# Altium footprint library Components.PcbLib: 154 footprints (part 3 of 10)
Each footprint in its own frame and in the unit in brackets; x right, y up, seen from the top. Pads: shape width x height; smd on the part's side, far side on the other; paste and mask are expansions set on the pad; w line width, h text height; cw(c..) or ccw(c..) is an arc to the next point about the centre after c.
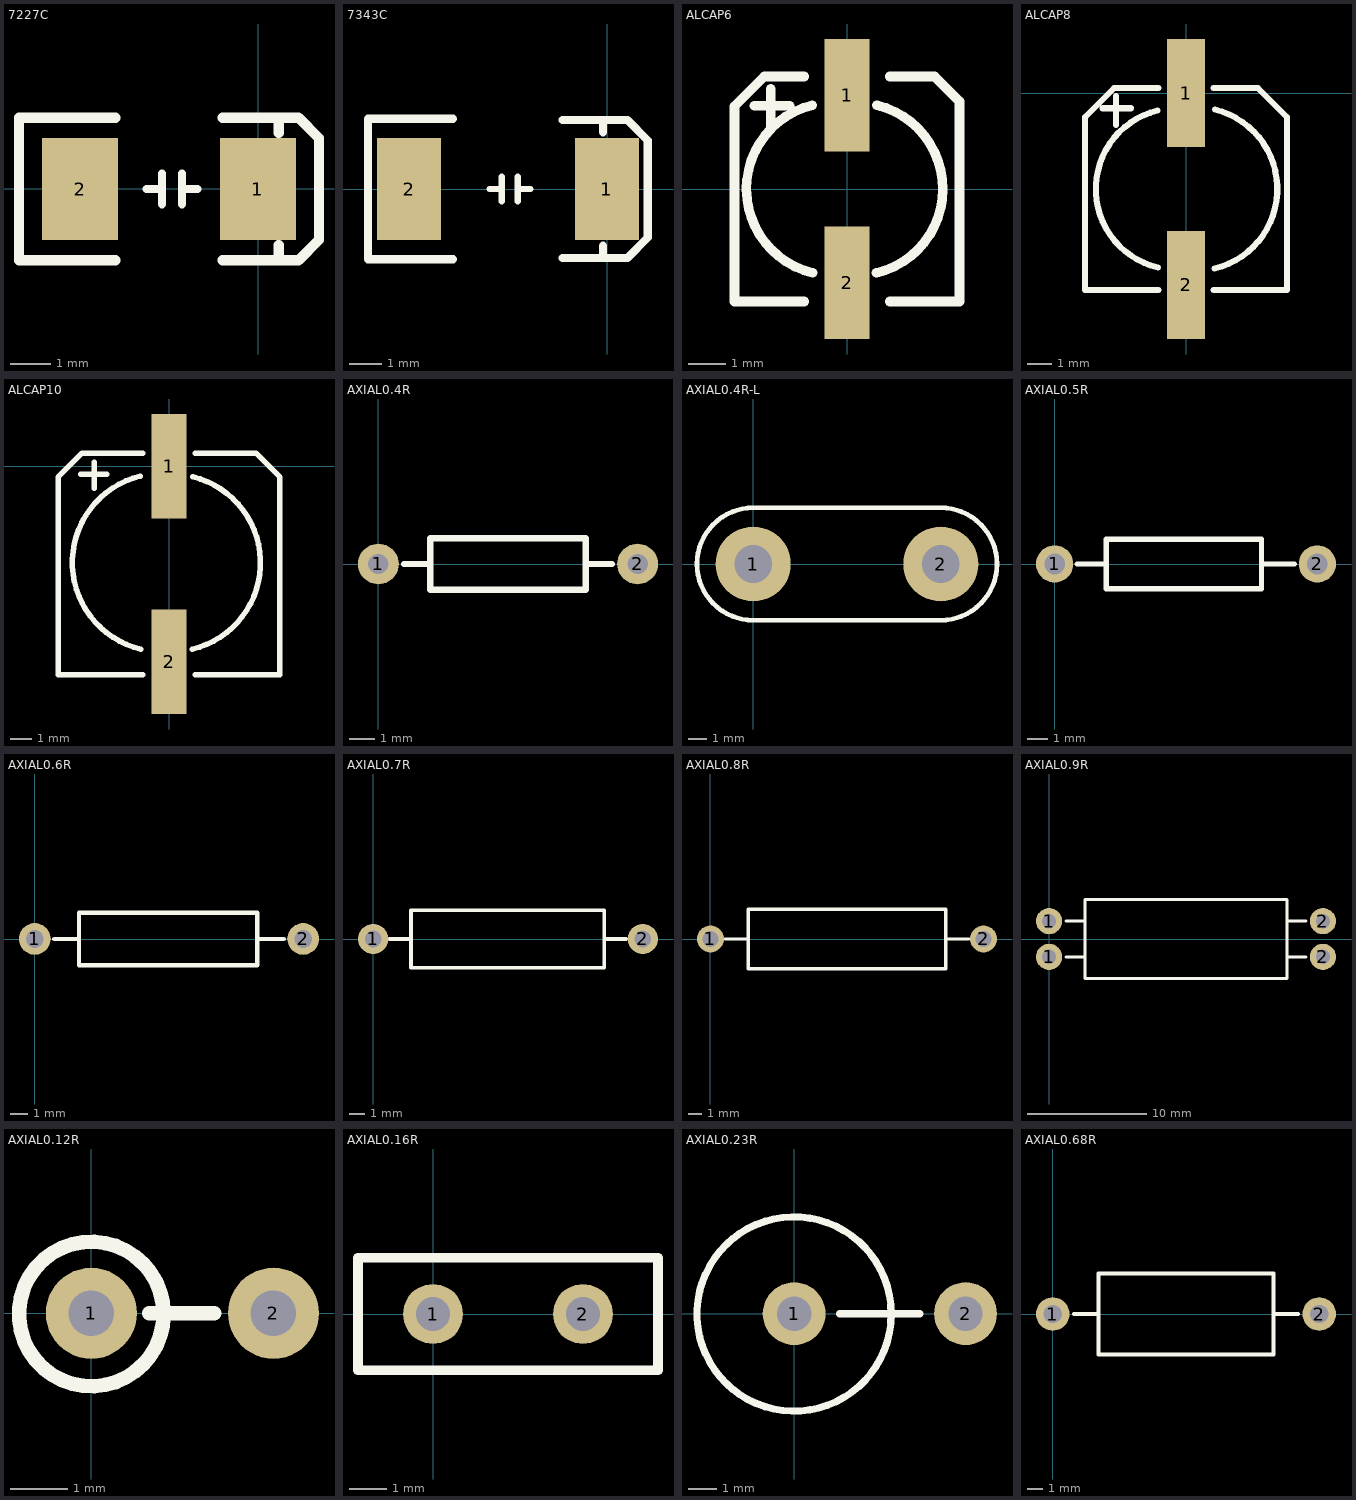
[diagram p2: the footprints below, top view; thin cyan lines are the x and y axes]

## 7227C [mm]
pads (2):
  rect 1.905x2.54 smd: 1(-0.01,0) 2(-4.455,0)
Top Overlay:
  lines w0.2: -2.794,0 -2.413,0 ; -2.413,-0.381 -2.413,0.381 ; -1.905,-0.381 -1.905,0.381 ; -1.905,0 -1.524,0
  lines w0.254: -3.566,-1.778 -5.979,-1.778 -5.979,1.778 -3.566,1.778 ; -0.899,-1.778 1.006,-1.778 1.514,-1.27 1.514,1.27 1.006,1.778 -0.899,1.778 ; 0.508,-1.778 0.508,-1.397 ; 0.508,1.397 0.508,1.778

## 7343C [mm] "73*43mm"
pads (2):
  rect 2x3.2 smd: 1(-0.01,0) 2(-6.2,0)
Top Overlay:
  lines w0.2: -3.683,0 -3.302,0 ; -3.302,-0.381 -3.302,0.381 ; -2.794,-0.381 -2.794,0.381 ; -2.794,0 -2.413,0
  lines w0.254: -4.826,-2.2 -7.493,-2.2 -7.493,2.2 -4.826,2.2 ; -1.397,-2.159 0.635,-2.159 1.27,-1.524 1.27,1.524 0.635,2.159 -1.397,2.159 ; -0.127,-2.159 -0.127,-1.778 ; -0.127,1.778 -0.127,2.159

## ALCAP6 [mm] "6mm"
pads (2):
  rect 1.2x3 smd: 1(0,2.5) 2(0,-2.5)
Top Overlay:
  lines w0.254: -2.47,2.222 -1.524,2.222 ; -2.032,1.657 -2.032,2.667 ; -1.143,-3 -3,-3 -3,2.207 -2.207,3 -1.143,3 ; -0.925,2.235 ccw(c-0.381,0) -0.908,-2.239 ; 0.781,-2.239 ccw(c0.254,0) 0.798,2.235 ; 1.143,-3 3,-3 3,2.334 2.334,3 1.143,3

## ALCAP8 [mm] "8mm"
pads (2):
  rect 1.6x4.5 smd: 1(0,0) 2(0,-8)
Top Overlay:
  lines w0.254: -3.486,-0.635 -2.286,-0.635 ; -2.921,-1.327 -2.921,-0.127 ; -1.194,-0.736 ccw(c-0.4,-4) -1.17,-7.27 ; -1.143,-8.2 -4.2,-8.2 -4.2,-1 -3,0.2 -1.143,0.2 ; 1.143,-8.2 4.2,-8.2 4.2,-1 3,0.2 1.143,0.2 ; 1.18,-7.315 ccw(c0.4,-4) 1.205,-0.691

## ALCAP10 [mm] "10mm"
pads (2):
  rect 1.6x4.8 smd: 1(0,0) 2(0,-9)
Top Overlay:
  lines w0.254: -4.064,-0.381 -2.864,-0.381 ; -3.429,-1.016 -3.429,0.184 ; -1.321,-0.454 ccw(c-0.353,-4.432) -1.291,-8.416 ; -1.2,-9.6 -5.1,-9.6 -5.1,-0.5 -4,0.6 -1.2,0.6 ; 1.068,-8.414 ccw(c0.136,-4.45) 1.098,-0.492 ; 1.2,-9.6 5.1,-9.6 5.1,-0.5 4,0.6 1.2,0.6

## AXIAL0.4R [mm] "1/4W"
pads (2):
  round 1.6 hole 0.8: 1(0,0.003) 2(10.16,0.003)
Top Overlay:
  lines w0.254: 1.016,0.003 2.032,0.003 ; 8.128,0.003 9.144,0.003 ; 2.032,-1.013 2.032,1.019 8.128,1.019 8.128,-1.013 2.032,-1.013

## AXIAL0.4R-L [mm] "1/4W"
pads (2):
  round 4 hole 2: 1(0,0) 2(10,0)
Top Overlay:
  lines w0.254: 9.994,-3 ccw(c10,0) 9.994,3 0.006,3 ccw(c0,0) 0.006,-3 10.1,-3

## AXIAL0.5R [mm] "1/2W"
pads (2):
  round 1.8 hole 1: 1(0,0.003) 2(12.7,0.003)
Top Overlay:
  lines w0.254: 1.084,0 2.5,0.003 ; 10,0.003 11.6,0.003 ; 2.5,-1.2 2.5,1.2 10,1.2 10,-1.2 2.5,-1.2

## AXIAL0.6R [mm] "1W"
pads (2):
  round 1.8 hole 1: 1(0,0.003) 2(15.2,0.003)
Top Overlay:
  lines w0.254: 1.084,0 2.5,0.003 ; 12.656,0 14.1,0 ; 2.5,-1.5 2.5,1.5 12.6,1.5 12.6,-1.5 2.5,-1.5

## AXIAL0.7R [mm]
pads (2):
  round 2 hole 1.1: 1(0,0.003) 2(17.8,0.003)
Top Overlay:
  lines w0.254: 1.084,0 2.5,0.003 ; 15.256,0 16.7,0 ; 2.5,-1.9 2.5,1.9 15.256,1.9 15.256,-1.9 2.5,-1.9

## AXIAL0.8R [mm] "2W"
pads (2):
  round 2 hole 1.2: 1(0,0.003) 2(20.3,0.003)
Top Overlay:
  lines w0.254: 1.084,0 2.8,0 ; 17.5,0 19.2,0 ; 2.8,-2.2 2.8,2.2 17.5,2.2 17.5,-2.2 2.8,-2.2

## AXIAL0.9R [mm]
pads (4):
  round 2.2 hole 1.2: 1(0,-1.5) 1(0,1.5) 2(23,-1.5) 2(23,1.5)
Top Overlay:
  lines w0.254: 1.4,-1.5 3,-1.5 ; 1.4,1.5 3,1.5 ; 20,-1.5 21.6,-1.5 ; 20,1.5 21.6,1.5 ; 3,-3.3 20,-3.3 20,3.3 3,3.3 3,-3.3

## AXIAL0.12R [mm]
pads (2):
  round 1.6 hole 0.8: 1(0,0) 2(3.2,0)
Top Overlay:
  circle w0.254: c0,-0.013 r1.27
  lines w0.254: 1.016,0 2.159,0

## AXIAL0.16R [mm]
pads (2):
  round 1.6 hole 0.9: 1(0,0) 2(4,0)
Top Overlay:
  lines w0.254: -2,-1.5 6,-1.5 6,1.5 -2,1.5 -2,-1.5

## AXIAL0.23R [mm]
pads (2):
  round 2.2 hole 1.2: 1(0,0) 2(6,0)
Top Overlay:
  circle w0.254: c0,-0.013 r3.4
  lines w0.254: 1.6,0 4.4,0

## AXIAL0.68R [mm]
pads (2):
  round 2.2 hole 1.2: 1(0,0) 2(17.5,0)
Top Overlay:
  lines w0.254: 1.4,0 3,0 ; 14.5,0 16.1,0 ; 3,-2.65 3,2.65 14.5,2.65 14.5,-2.65 3,-2.65